# EAGLE library part FOD3182S (library IC)
CONN HEADER SMD 6POS 2.54MM Manufacturer's datasheet <https://www.onsemi.com/pub/Collateral/FOD3182-D.pdf>
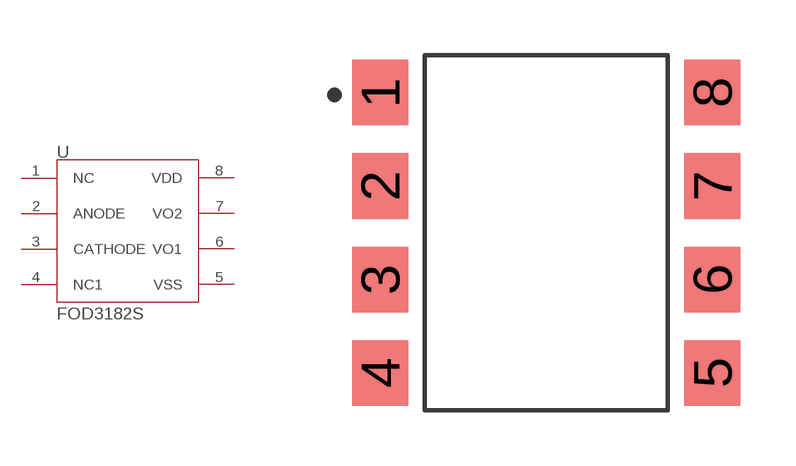
[diagram p0: symbol with the pads of FOD3182S; footprint FOD3182S]

Designator prefix U

## FOD3182S (CREATED_BY: PCBLayout.com; DIGIKEY_PARTNO: FOD3182S-ND; MANUFACTURER: ON Semiconductor; MPN: FOD3182S; PACKAGE: SMD-8)  [FOD3182S]
1  NC  nc
2  ANODE  pas
3  CATHODE  pas
4  NC1  nc
5  VSS  pwr
6  VO1  out
7  VO2  out
8  VDD  pwr

## Footprint FOD3182S (pad centres in mm)
smd 1.52 x 1.78: 1 -4.51,3.81; 2 -4.51,1.27; 3 -4.51,-1.27; 4 -4.51,-3.81; 5 4.51,-3.81; 6 4.51,-1.27; 7 4.51,1.27; 8 4.51,3.81